# EAGLE library part AT49BV640D (library memory-atmel)
FLASH MEMORY 64 Mega Bit (4M x 16)
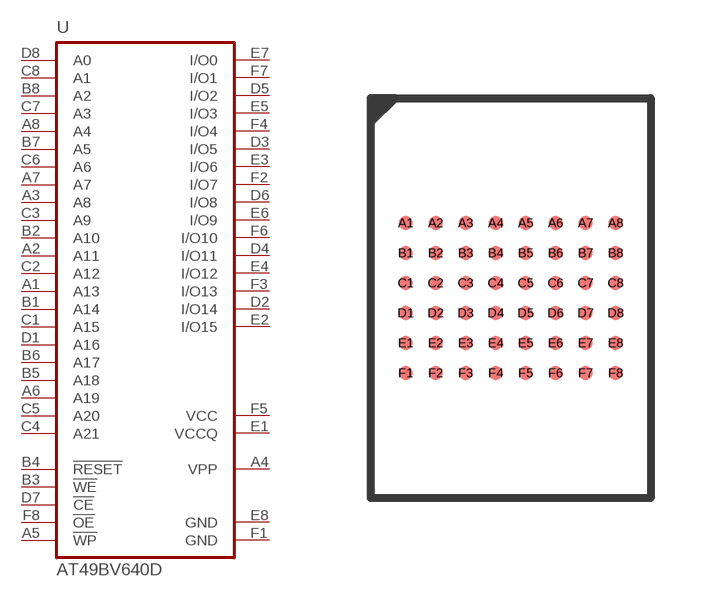
[diagram p14: symbol with the pads of CBGA-48C20; footprint CBGA-48C20]

Designator prefix U

## AT49BV640D  [CBGA-48C20]
A1  A13  in
A2  A11  in
A3  A8  in
A4  VPP
A5  !WP!  in
A6  A19  in
A7  A7  in
A8  A4  in
B1  A14  in
B2  A10  in
B3  !WE!  in
B4  !RESET!  in
B5  A18  in
B6  A17  in
B7  A5  in
B8  A2  in
C1  A15  in
C2  A12  in
C3  A9  in
C4  A21  in
C5  A20  in
C6  A6  in
C7  A3  in
C8  A1  in
D1  A16  in
D2  I/O14
D3  I/O5
D4  I/O11
D5  I/O2
D6  I/O8
D7  !CE!  in
D8  A0  in
E1  VCCQ
E2  I/O15
E3  I/O6
E4  I/O12
E5  I/O3
E6  I/O9
E7  I/O0
E8  GND
F1  GND
F2  I/O7
F3  I/O13
F4  I/O4
F5  VCC
F6  I/O10
F7  I/O1
F8  !OE!  in

## Footprint CBGA-48C20 (pad centres in mm)
CBGA 48C20 48-ball (8 x 6 Array) 0.75 mm Pitch, 7.0 x 10.0 x 1.0 mm
smd 0.35 x 0.35: A1 -2.625,1.875; A2 -1.875,1.875; A3 -1.125,1.875; A4 -0.375,1.875; A5 0.375,1.875; A6 1.125,1.875; A7 1.875,1.875; A8 2.625,1.875; B1 -2.625,1.125; B2 -1.875,1.125; B3 -1.125,1.125; B4 -0.375,1.125; B5 0.375,1.125; B6 1.125,1.125; B7 1.875,1.125; B8 2.625,1.125; C1 -2.625,0.375; C2 -1.875,0.375; C3 -1.125,0.375; C4 -0.375,0.375; C5 0.375,0.375; C6 1.125,0.375; C7 1.875,0.375; C8 2.625,0.375; D1 -2.625,-0.375; D2 -1.875,-0.375; D3 -1.125,-0.375; D4 -0.375,-0.375; D5 0.375,-0.375; D6 1.125,-0.375; D7 1.875,-0.375; D8 2.625,-0.375; E1 -2.625,-1.125; E2 -1.875,-1.125; E3 -1.125,-1.125; E4 -0.375,-1.125; E5 0.375,-1.125; E6 1.125,-1.125; E7 1.875,-1.125; E8 2.625,-1.125; F1 -2.625,-1.875; F2 -1.875,-1.875; F3 -1.125,-1.875; F4 -0.375,-1.875; F5 0.375,-1.875; F6 1.125,-1.875; F7 1.875,-1.875; F8 2.625,-1.875